# Altium footprint library PcbLib.PcbLib: 30 footprints (part 2 of 2)
Each footprint in its own frame and in the unit in brackets; x right, y up, seen from the top. Pads: shape width x height; smd on the part's side, far side on the other; paste and mask are expansions set on the pad; w line width, h text height; cw(c..) or ccw(c..) is an arc to the next point about the centre after c.
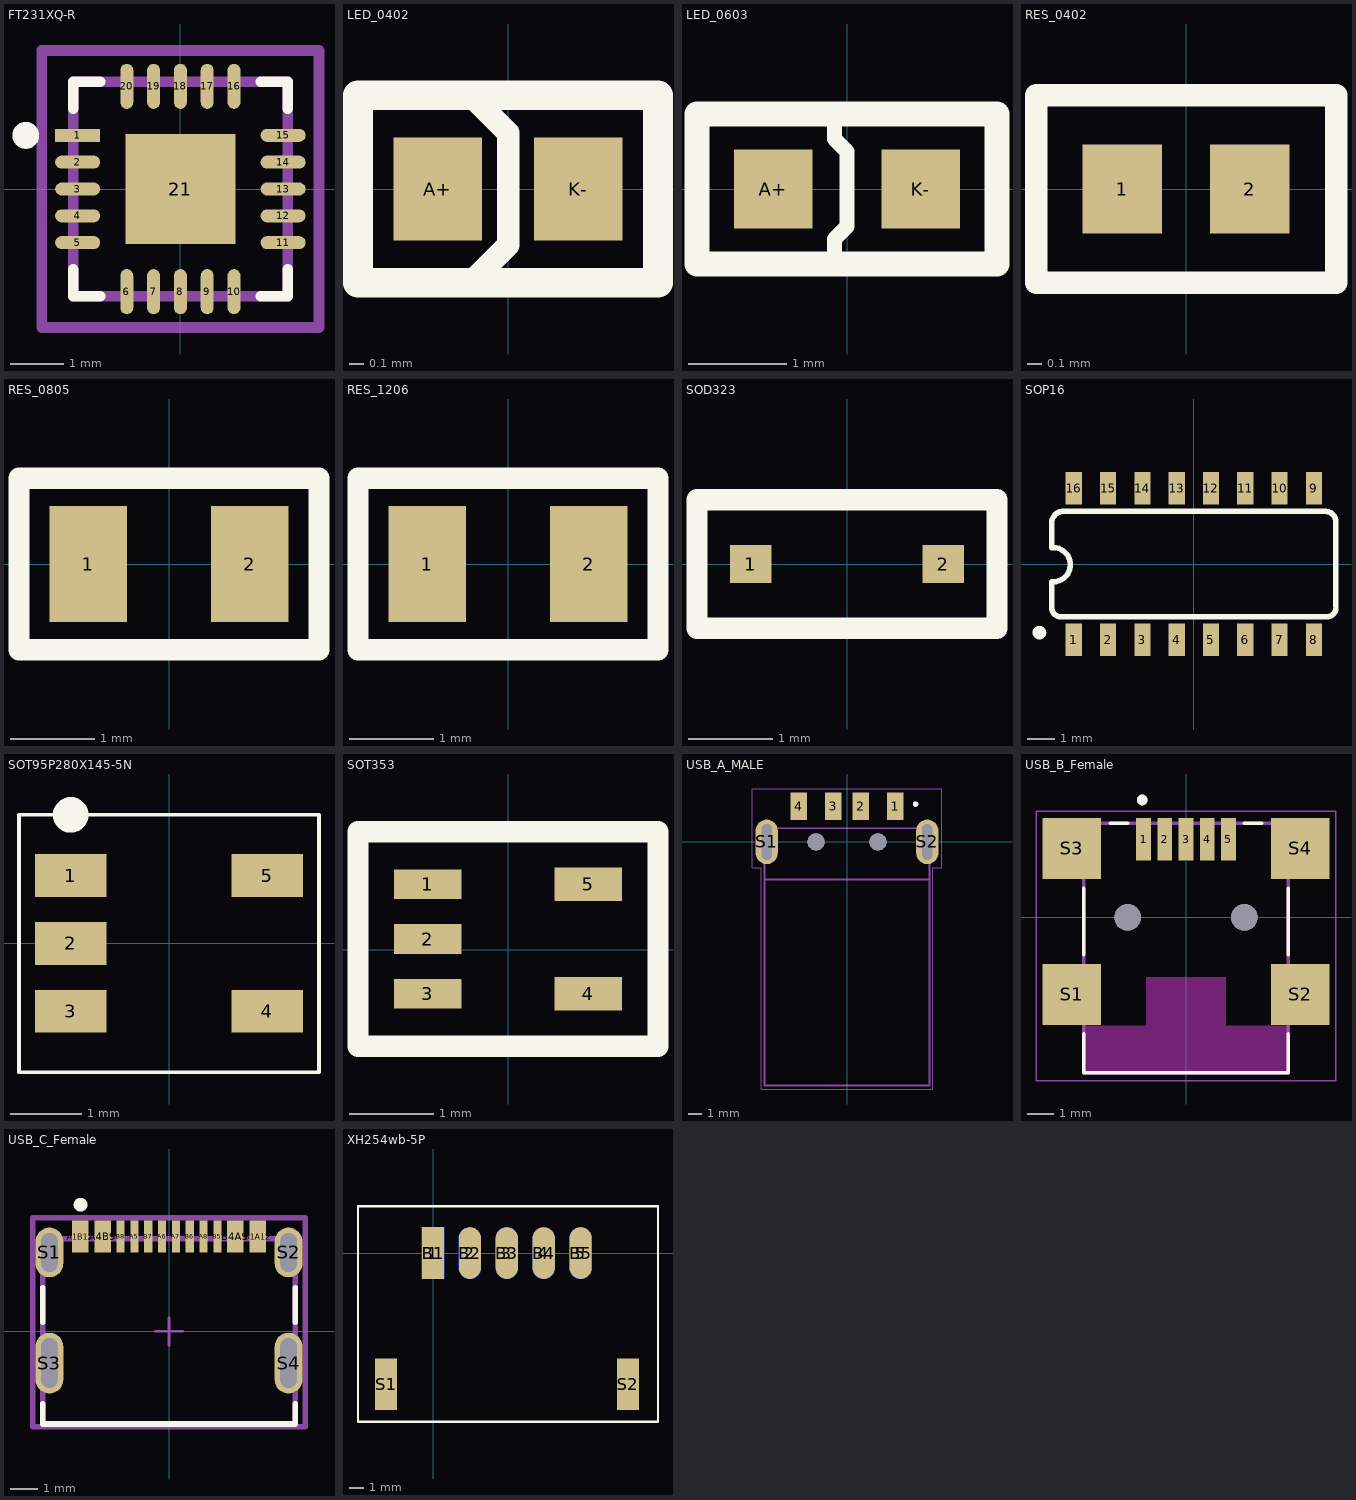
[diagram p1: the footprints below, top view; thin cyan lines are the x and y axes]

## FT231XQ-R [mm]
pads (21):
  rect 0.84x0.242 smd paste+0 mask+0: 1(-1.916,1)
  rrect100% 0.84x0.242 smd paste+0 mask+0: 2(-1.916,0.5) 3(-1.916,0) 4(-1.916,-0.5) 5(-1.916,-1) 11(1.916,-1) 12(1.916,-0.5) 13(1.916,0) 14(1.916,0.5) 15(1.916,1)
  rrect100% 0.242x0.84 smd paste+0 mask+0: 6(-1,-1.916) 7(-0.5,-1.916) 8(0,-1.916) 9(0.5,-1.916) 10(1,-1.916) 16(1,1.916) 17(0.5,1.916) 18(0,1.916) 19(-0.5,1.916) 20(-1,1.916)
  rect 2.05x2.05 smd paste-1000 mask+0: 21(0,0)
Top Overlay:
  circle w0.25: c-2.885,1 r0.125
  lines w0.2: -2,-1.5 -2,-2 -1.5,-2 ; -2,1.5 -2,2 -1.5,2 ; 1.5,-2 2,-2 2,-1.5 ; 1.5,2 2,2 2,1.5
Top Paste:
  rectangle: -0.648,-0.648 0.648,0.648
Top 3D Body:
  lines w0.2: -2,-2 -2,2 2,2 2,-2 -2,-2
Top Courtyard:
  lines w0.2: -2.585,-2.585 -2.585,2.585 2.585,2.585 2.585,-2.585 -2.585,-2.585
Top Assembly:
  lines w0.2: -2.585,-2.585 -2.585,2.585 2.585,2.585 2.585,-2.585 -2.585,-2.585
Top Component Center:
  lines w0.1: -0.5,0 0.5,0 ; 0,-0.5 0,0.5
3D body "IC_FTDI_FT231XQ-R_eec.STEP": height 0.25, standoff 0, extent -2.585,-2.585 2.585,2.585

## LED_0402 [mm]
pads (2):
  rect 0.6x0.7 smd: A+(-0.475,0) K-(0.475,0)
Top Overlay:
  lines w0.152: -0.254,-0.635 0,-0.381 0,0.381 -0.254,0.635
  lines w0.2: -1.016,-0.635 -1.016,-0.432 -1.016,0.635 1.016,0.635 1.016,-0.635 -1.016,-0.635
3D body "User Library-led_0402_BLUE.STEP": height 0.45, standoff 0, extent -0.505,-0.25 0.505,0.25

## LED_0603 [mm]
pads (2):
  rect 0.8x0.8 smd paste+0 mask+0: A+(-0.75,0) K-(0.75,0)
Top Overlay:
  lines w0.152: -0.254,0.762 -0.127,0.762 -0.127,0.508 0,0.381 0,0 0,-0.381 -0.127,-0.508 -0.127,-0.762
  lines w0.254: -1.524,-0.762 1.524,-0.762 1.524,0.762 -1.524,0.762 -1.524,-0.762
3D body "Diode_Vishay_VLMW1300-GS08_eec.STEP": height 0.25, standoff 0, extent -1.25,-0.6 1.25,0.6

## RES_0402 [mm]
pads (2):
  rect 0.54x0.6 smd: 1(-0.432,0) 2(0.432,0)
Top Overlay:
  lines w0.152: -1.016,-0.635 -1.016,0.635 1.016,0.635 1.016,-0.635 -1.016,-0.635
3D body "step_temp.STEP": height 0.37, standoff 0, extent -0.5,-0.25 0.5,0.25

## RES_0805 [mm]
pads (2):
  rect 0.92x1.38 smd: 1(-0.955,0) 2(0.955,0)
Top Overlay:
  lines w0.254: -1.778,-1.016 1.778,-1.016 1.778,1.016 -1.778,1.016 -1.778,-1.016
3D body "RC0805FR-072KP.step": height 0.61, standoff 0.01, extent -1,-0.625 1,0.625

## RES_1206 [mm]
pads (2):
  rect 0.92x1.38 smd: 1(-0.955,0) 2(0.955,0)
Top Overlay:
  lines w0.254: -1.778,-1.016 1.778,-1.016 1.778,1.016 -1.778,1.016 -1.778,-1.016
3D body "step_temp.STEP": height 0.6, standoff 0, extent -1,-0.625 1,0.625

## SOD323 [mm]
pads (2):
  rect 0.49x0.45 smd: 1(-1.14,0) 2(1.14,0)
Top Overlay:
  lines w0.254: -1.778,-0.762 1.778,-0.762 1.778,0.762 -1.778,0.762 -1.778,-0.762
3D body "TVS_AQ4021-01FTG-C.stp": height 1.1, standoff -0.04, extent -1.298,-0.65 1.298,0.65

## SOP16 [mm]
pads (16):
  rect 0.6x1.2 smd: 1(-4.445,-2.8) 2(-3.175,-2.8) 3(-1.905,-2.8) 4(-0.635,-2.8) 5(0.635,-2.8) 6(1.905,-2.8) 7(3.175,-2.8) 8(4.445,-2.8) 9(4.445,2.8) 10(3.175,2.8) 11(1.905,2.8) 12(0.635,2.8) 13(-0.635,2.8) 14(-1.905,2.8) 15(-3.175,2.8) 16(-4.445,2.8)
Top Overlay:
  circle w0.254: c-5.715,-2.54 r0.127
  lines w0.203: -5.257,-1.668 ccw(c-4.927,-1.615) -4.874,-1.946 ; -5.258,-1.665 -5.258,-0.66 ; -5.258,0.61 -5.258,1.453 ; -5.257,1.463 cw(c-4.827,1.515) -4.88,1.946 ; -5.207,-0.66 ccw(c-5.207,-0.025) -5.207,0.61 ; -4.877,-1.946 4.977,-1.946 ; -4.877,1.946 4.877,1.946 cw(c4.877,1.565) 5.258,1.565 5.258,-1.565 ; 4.979,-1.946 ccw(c4.927,-1.615) 5.257,-1.563
Mechanical 13:
  region: -4.191,-3.302 -4.699,-3.302 -4.699,-2.273 -4.191,-2.273
  region: -2.921,-3.302 -3.429,-3.302 -3.429,-2.273 -2.921,-2.273
  region: -1.651,-3.302 -2.159,-3.302 -2.159,-2.273 -1.651,-2.273
  region: -0.381,-3.302 -0.889,-3.302 -0.889,-2.273 -0.381,-2.273
  region: 0.889,-3.302 0.381,-3.302 0.381,-2.273 0.889,-2.273
  region: 2.159,-3.302 1.651,-3.302 1.651,-2.273 2.159,-2.273
  region: 3.429,-3.302 2.921,-3.302 2.921,-2.273 3.429,-2.273
  region: 4.699,-3.302 4.191,-3.302 4.191,-2.273 4.699,-2.273
  region: -4.191,2.286 -4.699,2.286 -4.699,3.365 -4.191,3.365
  region: -2.921,2.286 -3.429,2.286 -3.429,3.302 -2.921,3.302
  region: -1.651,2.286 -2.159,2.286 -2.159,3.302 -1.651,3.302
  region: -0.381,2.286 -0.889,2.286 -0.889,3.302 -0.381,3.302
  region: 0.889,2.286 0.381,2.286 0.381,3.302 0.889,3.302
  region: 2.159,2.286 1.651,2.286 1.651,3.302 2.159,3.302
  region: 3.429,2.286 2.921,2.286 2.921,3.302 3.429,3.302
  region: 4.699,2.286 4.191,2.286 4.191,3.302 4.699,3.302
3D body "step_temp.STEP": height 1.8, standoff 0, extent -5,-3 5,3

## SOT95P280X145-5N [mm] "SOT23, 5-Leads, Body 2.90x2.80mm, Pitch 0.95mm, IPC Medium Density"
height 1.45
pads (5):
  rect 1x0.6 smd: 1(-1.375,0.95) 2(-1.375,0) 3(-1.375,-0.95) 4(1.375,-0.95) 5(1.375,0.95)
Top Overlay:
  circle w0.25: c-1.375,1.8 r0.125
  lines w0.05: -2.1,-1.8 -2.1,1.8 2.1,1.8 2.1,-1.8 -2.1,-1.8
3D body "SOT95P280X145-5N.step": height 1.45, standoff 0, extent -1.5,-1.525 1.5,1.525

## SOT353 [mm] "SOTFL, 5-Leads, Body 2.01x2.11mm, Pitch 0.65mm, IPC Medium Density"
height 0.91
pads (5):
  rect 0.8x0.35 smd: 1(-0.95,0.777) 2(-0.95,0.127) 3(-0.95,-0.523)
  rect 0.8x0.4 smd: 4(0.95,-0.523) 5(0.95,0.777)
Top Overlay:
  lines w0.254: -1.778,-1.143 -1.778,1.397 1.778,1.397 1.778,-1.143 -1.778,-1.143
3D body "SOTFL65P210X91-5N.step": height 0.91, standoff 0, extent -1.052,-0.881 1.052,1.135

## USB_A_MALE [mm]
pads (8):
  rect 1.2x2 smd: 1(3.5,2.6) 2(1,2.6) 3(-1,2.6) 4(-3.5,2.6)
  oval 1.625x3.25 hole 0.75 slot 2.6 at 90 deg: S1(-5.85,0) S2(5.85,0)
  round 1.25 hole 1.25 unplated: ""(-2.25,0) ""(2.25,0)
Top Overlay:
  circle w0.2: c5,2.75 r0.1
  circle w0.2: c5,2.75 r0.1
Mechanical 1:
  lines w0.127: -6,-1.945 -6,-2.75 ; 6,-1.945 6,-2.75 ; -6,-2.75 -6,1 6,1 6,-2.75 ; -6,-2.75 6,-2.75 ; -6,-2.75 6,-2.75 ; -6,-2.75 -6,-17.75 6,-17.75 6,-2.75
  text "PCB EDGE" at -3.5,-2.5 h1.02
Mechanical 15:
  lines w0.05: -6.913,-1.875 -6.25,-1.875 -6.25,-18 6.25,-18 6.25,-1.875 6.913,-1.875 6.913,3.85 -6.913,3.85 -6.913,-1.875
3D body "USB Connector Type A male, SMT.STEP": height 4.5, standoff -3.79, extent -6.096,-18.564 6.331,3.324

## USB_B_Female [mm]
height 3.9
pads (11):
  rect 0.55x1.6 smd: 1(-1.6,2.95) 2(-0.8,2.95) 3(0,2.95) 4(0.8,2.95) 5(1.6,2.95)
  rect 2.2x2.3 smd: S1(-4.3,-2.9) S2(4.3,-2.9) S3(-4.3,2.6) S4(4.3,2.6)
  round 1 hole 1 unplated: ""(-2.2,0) ""(2.2,0)
Top Overlay:
  circle w0.2: c-1.65,4.425 r0.1
  lines w0.127: -3.85,-4.378 -3.85,-5.85 3.85,-5.85 3.85,-4.378 ; -3.85,-1.4 -3.85,1.1 ; -2.85,3.55 -2.2,3.55 ; 2.2,3.55 2.85,3.55 ; 3.85,-1.4 3.85,1.1
Keep-Out Layer:
  region: 1.5,-4.075 3.85,-4.075 3.85,-5.9 -3.85,-5.9 -3.85,-4.075 -1.5,-4.075 -1.5,-2.25 1.5,-2.25
Mechanical 13:
  circle w0.2: c-1.65,4.425 r0.1
  lines w0.127: -3.85,-5.85 3.85,-5.85 3.85,3.55 -3.85,3.55 -3.85,-5.85
Mechanical 15:
  lines w0.05: -5.65,-6.15 -5.65,4 5.65,4 5.65,-6.15 -5.65,-6.15
3D body "step_temp.STEP": height 3.9, standoff -0.6, extent -4.964,-5.45 4.964,3.95

## USB_C_Female [mm]
pads (16):
  rect 0.6x1.15 smd paste+0 mask+0: A1B12(-3.2,3.425) A4B9(-2.4,3.425) B1A12(3.2,3.425) B4A9(2.4,3.425)
  rect 0.3x1.15 smd paste+0 mask+0: A5(-1.25,3.425) A6(-0.25,3.425) A7(0.25,3.425) A8(1.25,3.425) B5(1.75,3.425) B6(0.75,3.425) B7(-0.75,3.425) B8(-1.75,3.425)
  rrect100% 1x1.8 hole 1.4 slot 0.6 at 0 deg paste-2539.97 mask+0: S1(-4.32,2.85) S2(4.32,2.85)
  rrect100% 1x2.2 hole 1.8 slot 0.6 at 0 deg paste-2539.97 mask+0: S3(-4.32,-1.15) S4(4.32,-1.15)
Top Overlay:
  circle w0.25: c-3.195,4.575 r0.125
  lines w0.2: -4.57,-2.625 -4.57,-3.35 4.57,-3.35 4.57,-2.625 ; -4.57,0.325 -4.57,1.575 ; 4.57,0.325 4.57,1.575
Top 3D Body:
  lines w0.2: -4.57,-3.35 4.57,-3.35 4.57,3.35 -4.57,3.35 -4.57,-3.35
Top Courtyard:
  lines w0.2: -4.92,-3.45 4.92,-3.45 4.92,4.1 -4.92,4.1 -4.92,-3.45
Top Assembly:
  lines w0.2: -4.92,-3.45 4.92,-3.45 4.92,4.1 -4.92,4.1 -4.92,-3.45
  text ".Designator" at 0,0.512 h1
Top Component Center:
  lines w0.1: -0.5,0 0.5,0 ; 0,-0.5 0,0.5
3D body "Conn_Molex_2171790001_eec.STEP": height 0.25, standoff 0, extent -4.92,-3.45 4.92,4.1

## XH254wb-5P [mm] "5PIN_Header_Connectotor_selfMade"
pads (12):
  rect 1.5x3.5 smd: 1(0,0) S1(-3.175,-8.89) S2(13.208,-8.89)
  oval 1.5x3.5 smd: 2(2.5,0) 3(5,0) 4(7.5,0) 5(10,0)
  rect 1.5x3.5 smd far side: B1(0,0)
  oval 1.5x3.5 smd far side: B2(2.5,0) B3(5,0) B4(7.5,0) B5(10,0)
Top Overlay:
  lines w0.152: -5.08,-11.43 -5.08,3.175 15.24,3.175 15.24,-11.43 10.16,-11.43 0,-11.43 -5.08,-11.43